# Altium schematic symbol library SOD123.SchLib: 1 symbol
Pins are listed as number, name and electrical type; pins without a type are passive.

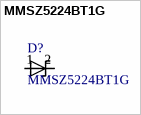
[diagram p0: symbol MMSZ5224BT1G]

## MMSZ5224BT1G
designator D?
Zener Voltage Regulators 500 mW SOD123 Surface Mount; MF: ON Semiconductor; MP: MMSZ5224BT1G; Price: None; Availability: Unavailable; SnapEDA_Link: https://www.snapeda.com/parts/MMSZ5224BT1G/ON%20Semiconductor/view-part/?ref=snap; Package: SOD-123 ON Semiconductor; Value: *
footprint *SOD3716X117N_MMSZ5224BT1G(Primary)
pins: 1, 2